# Altium schematic symbol library Cap.SchLib: 34 symbols (part 2 of 2)
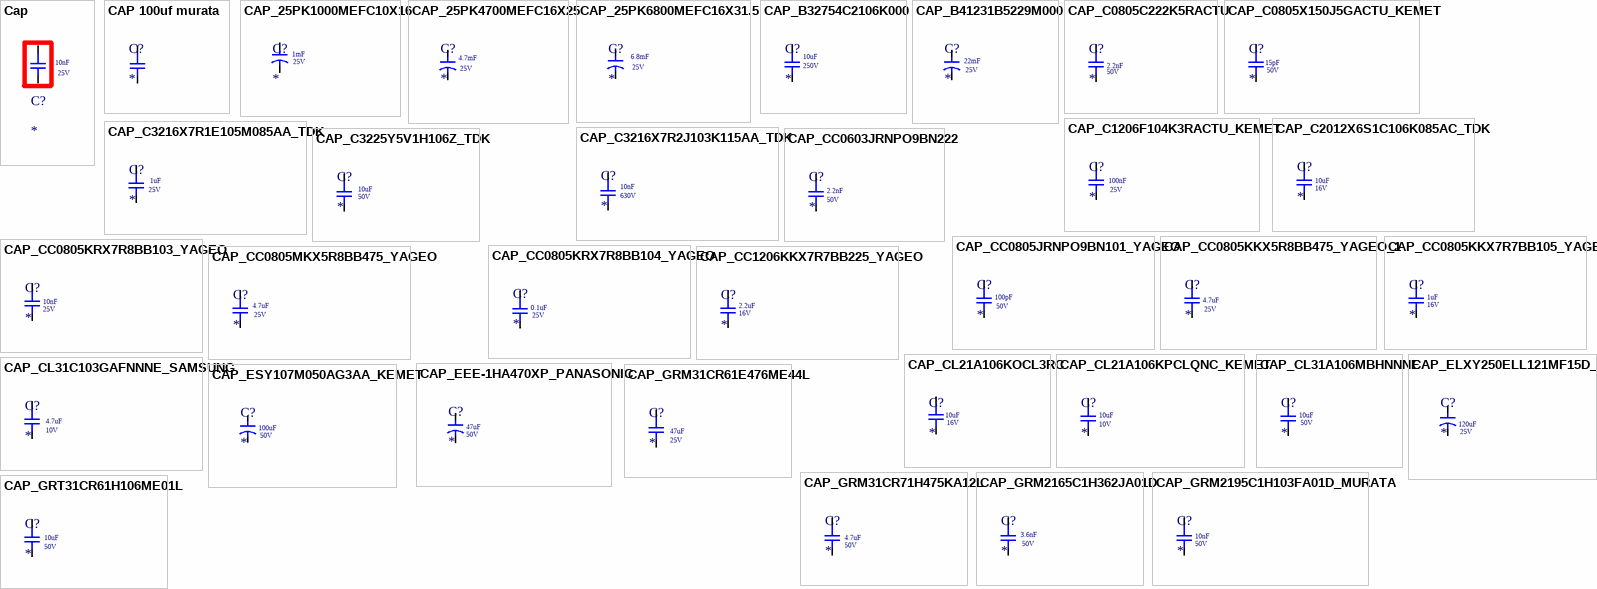
[diagram p1: symbols Cap to CAP_GRT31CR61H106ME01L]

## CAP_GRM31CR71H475KA12L
designator C?  Voltage: 50V  Capacitance: 4.7uF
1206 4.7 uF 50 V ±10% Tolerance X7R SMT Multilayer Ceramic Capacitor; Manufacturer 1: Murata; Manufacturer Part Number 1: GRM31CR71H475KA12L; Supplier 1: Newark; Stock 1: 90000; Pricing 1: 1=0,13600, 10000=0,10600 (USD); RoHS: Yes; Mount: Surface Mount; Case/Package: 1206; Case Code (Metric): 3216; Case Code (Imperial): 1206; Material: Ceramic; Min Operating Temperature: -55°C; Max Operating Temperature: 125°C; Tolerance: 10%; Dielectric: X7R; Voltage Rating: 50V; Packaging: Tape and Reel; Voltage Rating (DC): 50V; Package Quantity: 2000; Termination: SMD/SMT; Series: GRM; Construction: Flat; Length: 3.2mm; Width: 0.063inch; Height: 1.6mm; Thickness: 0.071inch; Depth: 1.6mm; Radiation Hardening: No; REACH SVHC: No SVHC; Lead Free: Lead Free; RoHS Compliant: Yes; ComponentLink1URL: https://datasheet.ciiva.com/6072/415379-6072784.pdf?src-supplier=Farnell; ComponentLink1Description: https://datasheet.ciiva.com/6072/415379-6072784.pdf?src-supplier=Farnell; ComponentLink2URL: https://datasheet.ciiva.com/3777/2267grm31cr71h475ka1223-3777241.pdf?src-supplier=Arrow+Electronics; ComponentLink2Description: https://datasheet.ciiva.com/3777/2267grm31cr71h475ka1223-3777241.pdf?src-supplier=Arrow+Electronics; ComponentLink3URL: https://datasheet.ciiva.com/29202/451279-da-01-de-vs-kondens-grm31-cr71h-475ka12l-29202365.pdf?src-supplier=Conrad; ComponentLink3Description: https://datasheet.ciiva.com/29202/451279-da-01-de-vs-kondens-grm31-cr71h-475ka12l-29202365.pdf?src-supplier=Conrad; ComponentLink4URL: https://datasheet.ciiva.com/29202/450972-da-01-de-vs-chip-kond-1206-4-7-uf-10pr-50-0v-x7r-29202576.pdf?src-supplier=Conrad; ComponentLink4Description: https://datasheet.ciiva.com/29202/450972-da-01-de-vs-chip-kond-1206-4-7-uf-10pr-50-0v-x7r-29202576.pdf?src-supplier=Conrad; ComponentLink5URL: https://datasheet.ciiva.com/6270/partnumbering-e-01-6270217.pdf?src-supplier=Digi-Key; ComponentLink5Description: https://datasheet.ciiva.com/6270/partnumbering-e-01-6270217.pdf?src-supplier=Digi-Key; ComponentLink6URL: https://datasheet.ciiva.com/6270/partnumbering-e-01-6270218.pdf?src-supplier=Digi-Key; ComponentLink6Description: https://datasheet.ciiva.com/6270/partnumbering-e-01-6270218.pdf?src-supplier=Digi-Key; ComponentLink7URL: https://datasheet.ciiva.com/6270/partnumbering-e-01-6270219.pdf?src-supplier=Digi-Key; ComponentLink7Description: https://datasheet.ciiva.com/6270/partnumbering-e-01-6270219.pdf?src-supplier=Digi-Key; ComponentLink8URL: https://datasheet.ciiva.com/7937/415310-7937749.pdf?src-supplier=Element14; ComponentLink8Description: https://datasheet.ciiva.com/7937/415310-7937749.pdf?src-supplier=Element14; Supplier Part Number 1: 08AC2721
footprint cap smd 1206
pins: 22, 23

## CAP_GRM2165C1H362JA01D
designator C?  Voltage Rating: 50V  Capacitance: 3.6nF
CAP CER 3600PF 50V C0G/NP0 0805; Manufacturer 1: Murata; Manufacturer Part Number 1: GRM2165C1H362JA01D; Tolerance: 5%; Dielectric: C0G; Supplier 1: Digi-Key; Stock 1: 1975; Pricing 1: 1=0,27000, 10=0,18100, 50=0,10860, 100=0,09180, 500=0,06280, 1000=0,05554 (USD); RoHS: Yes; Mount: Surface Mount; Case/Package: 0805; Case Code (Metric): 2012; Case Code (Imperial): 0805; Min Operating Temperature: -55°C; Max Operating Temperature: 125°C; Package Quantity: 1; Packaging: Tape and Reel; Voltage Rating (DC): 50V; Termination: SMD/SMT; Series: GRM; Construction: Flat; Length: 2mm; Width: 0.049inch; Height: 0.6mm; Thickness: 0.028inch; Depth: 1.25mm; Radiation Hardening: No; Lead Free: Lead Free; RoHS Compliant: Yes; ComponentLink1URL: https://datasheet.ciiva.com/29542/grm2165c1h362ja01-01-29542674.pdf?src-supplier=Digi-Key; ComponentLink1Description: https://datasheet.ciiva.com/29542/grm2165c1h362ja01-01-29542674.pdf?src-supplier=Digi-Key; ComponentLink2URL: https://datasheet.ciiva.com/5423/product-5423670.pdf?src-supplier=Mouser; ComponentLink2Description: https://datasheet.ciiva.com/5423/product-5423670.pdf?src-supplier=Mouser; ComponentLink3URL: https://datasheet.ciiva.com/169/partnumbering-e-01-169119.pdf?src-supplier=Digi-Key; ComponentLink3Description: https://datasheet.ciiva.com/169/partnumbering-e-01-169119.pdf?src-supplier=Digi-Key; Supplier Part Number 1: 490-3318-1-ND
footprint CAP smd 0805
pins: 22, 23

## CAP_GRM2195C1H103FA01D_MURATA
designator C?  Voltage: 50V  Capacitance: 10nF
0805 10 nF 50 V ±1% Tolerance C0G SMD Multilayer Ceramic Capacitor; Manufacturer 1: Murata; Manufacturer Part Number 1: GRM2195C1H103FA01D; Temperature Coefficient: 30ppm/°C; Supplier 1: Arrow Electronics; Stock 1: 3; Pricing 1: 1=0,54310 (USD); RoHS: Yes; Mount: Surface Mount; Case/Package: 0805; Case Code (Imperial): 0805; Case Code (Metric): 2012; Min Operating Temperature: -55°C; Max Operating Temperature: 125°C; Tolerance: 1%; Dielectric: C0G; Packaging: Tape and Reel; Voltage Rating: 50V; Voltage Rating (DC): 50V; Package Quantity: 4000; Termination: SMD/SMT; Series: GRM; Construction: Flat; Length: 2mm; Width: 1.25mm; Height: 0.85mm; Depth: 1.25mm; Thickness: 0.037inch; Radiation Hardening: No; REACH SVHC: No SVHC; Lead Free: Lead Free; RoHS Compliant: Yes; ComponentLink1URL: https://datasheet.ciiva.com/29542/partnumbering-e-01-29542571.pdf?src-supplier=Digi-Key; ComponentLink1Description: https://datasheet.ciiva.com/29542/partnumbering-e-01-29542571.pdf?src-supplier=Digi-Key; ComponentLink2URL: https://datasheet.ciiva.com/29542/partnumbering-e-01-29542569.pdf?src-supplier=Digi-Key; ComponentLink2Description: https://datasheet.ciiva.com/29542/partnumbering-e-01-29542569.pdf?src-supplier=Digi-Key; ComponentLink3URL: https://datasheet.ciiva.com/29542/partnumbering-e-01-29542570.pdf?src-supplier=Digi-Key; ComponentLink3Description: https://datasheet.ciiva.com/29542/partnumbering-e-01-29542570.pdf?src-supplier=Digi-Key; ComponentLink4URL: https://datasheet.ciiva.com/17452/c02e-17452856.pdf?src-supplier=Avnet+Europe; ComponentLink4Description: https://datasheet.ciiva.com/17452/c02e-17452856.pdf?src-supplier=Avnet+Europe; ComponentLink5URL: https://datasheet.ciiva.com/16497/c02e-16497047.pdf?src-supplier=Future+Electronics; ComponentLink5Description: https://datasheet.ciiva.com/16497/c02e-16497047.pdf?src-supplier=Future+Electronics; Supplier Part Number 1: GRM2195C1H103FA01D
footprint CAP smd 0805
pins: 22, 23

## CAP_GRT31CR61H106ME01L
designator C?  Voltage Rating: 50V  Capacitance: 10uF
1206 10 uF 50 V ±20% Tolerance X5R Multilayer Ceramic Capacitor; Manufacturer 1: Murata; Manufacturer Part Number 1: GRT31CR61H106ME01L; Supplier 1: Digi-Key; Stock 1: 201801; Pricing 1: 1=0,46000, 10=0,31800, 50=0,22240, 100=0,19060, 500=0,14294, 1000=0,12070 (USD); RoHS: Yes; Mount: Surface Mount; Case/Package: 1206; Case Code (Metric): 3216; Case Code (Imperial): 1206; Min Operating Temperature: -55°C; Max Operating Temperature: 85°C; Packaging: Tape and Reel; Tolerance: 20%; Length: 0.126inch; Width: 0.063inch; Thickness: 0.071inch; Ratings: AEC-Q200; RoHS Compliant: Yes; ComponentLink1URL: http://search.murata.co.jp/Ceramy/image/img/A01X/G101/ENG/GRT31CR61H106ME01-01.pdf?src-supplier=Digi-Key; ComponentLink1Description: http://search.murata.co.jp/Ceramy/image/img/A01X/G101/ENG/GRT31CR61H106ME01-01.pdf?src-supplier=Digi-Key; Supplier Part Number 1: 490-12457-1-ND
footprint cap smd 1206
pins: 22, 23